# Altium schematic symbol library MCP6496UT-E_LT.SchLib: 1 symbol
Pins are listed as number, name and electrical type; pins without a type are passive.

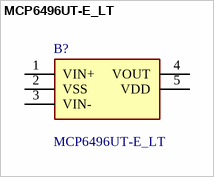
[diagram p0: symbol MCP6496UT-E_LT]

## MCP6496UT-E_LT
designator B?
Operational Amplifiers - Op Amps; Manufacturer_Name: Microchip; Manufacturer_Part_Number: MCP6496UT-E/LT; Geometry.Height: 1.1mm; Mouser Part Number: 579-MCP6496UT-E/LT; Mouser Price/Stock: https://www.mouser.co.uk/ProductDetail/Microchip-Technology/MCP6496UT-E-LT?qs=rQFj71Wb1eVvCEGwzv3Ppw%3D%3D; Datasheet Link: https://datasheet.lcsc.com/lcsc/2309071240_Microchip-Tech-MCP6496UT-E-LT_C6797877.pdf
footprint SOT65P210X110-5N
pins: 1 VIN+, 2 VSS, 3 VIN-, 4 VOUT, 5 VDD